# Altium schematic symbol library MRS25000C4751FRP00.SchLib: 2 symbols
Pins are listed as number, name and electrical type; pins without a type are passive.

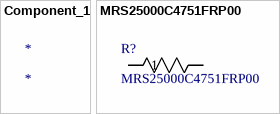
[diagram p0: symbols Component_1 to MRS25000C4751FRP00]

## Component_1
designator *

## MRS25000C4751FRP00
designator R?
No Description Available; Mfr_Name: Vishay; Copyright: Copyright (C) 2023 Ultra Librarian. All rights reserved.; Manufacturer_Part_Number: MRS25000C4751FRP00; RefDes: RefDes; Type: DEV
footprint MBB_VIS
footprint PCBComponent_1 (Footprint not found)
pins: 1, 2